# Altium footprint library TouchPad.PcbLib: 2 footprints
Each footprint in its own frame and in the unit in brackets; x right, y up, seen from the top. Pads: shape width x height; smd on the part's side, far side on the other; paste and mask are expansions set on the pad; w line width, h text height; cw(c..) or ccw(c..) is an arc to the next point about the centre after c.
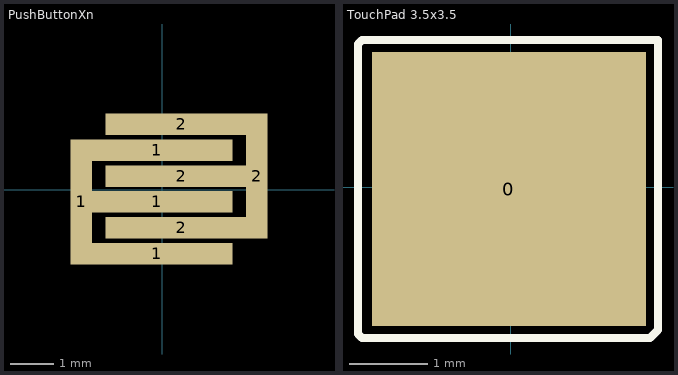
[diagram p0: the footprints below, top view; thin cyan lines are the x and y axes]

## PushButtonXn [mm]
pads (8):
  rect 0.5x2.9 smd: 1(-1.88,-0.285) 2(2.184,0.315)
  rect 3.5x0.5 smd: 1(-0.127,-1.486) 1(-0.127,-0.286) 1(-0.127,0.914) 2(0.432,-0.886) 2(0.432,0.314) 2(0.432,1.514)

## TouchPad 3.5x3.5 [mm]
pads (1):
  rect 3.5x3.5 smd: 0(-0.025,-0.025)
Top Overlay:
  lines w0.1: -1.956,-1.88 -1.956,1.829 -1.905,1.88 1.88,1.88 1.88,-1.829 1.778,-1.93 -1.905,-1.93 -1.956,-1.88